# Altium footprint library adafruit.PCBLIB: 643 footprints (part 32 of 41)
Each footprint in its own frame and in the unit in brackets; x right, y up, seen from the top. Pads: shape width x height; smd on the part's side, far side on the other; paste and mask are expansions set on the pad; w line width, h text height; cw(c..) or ccw(c..) is an arc to the next point about the centre after c.
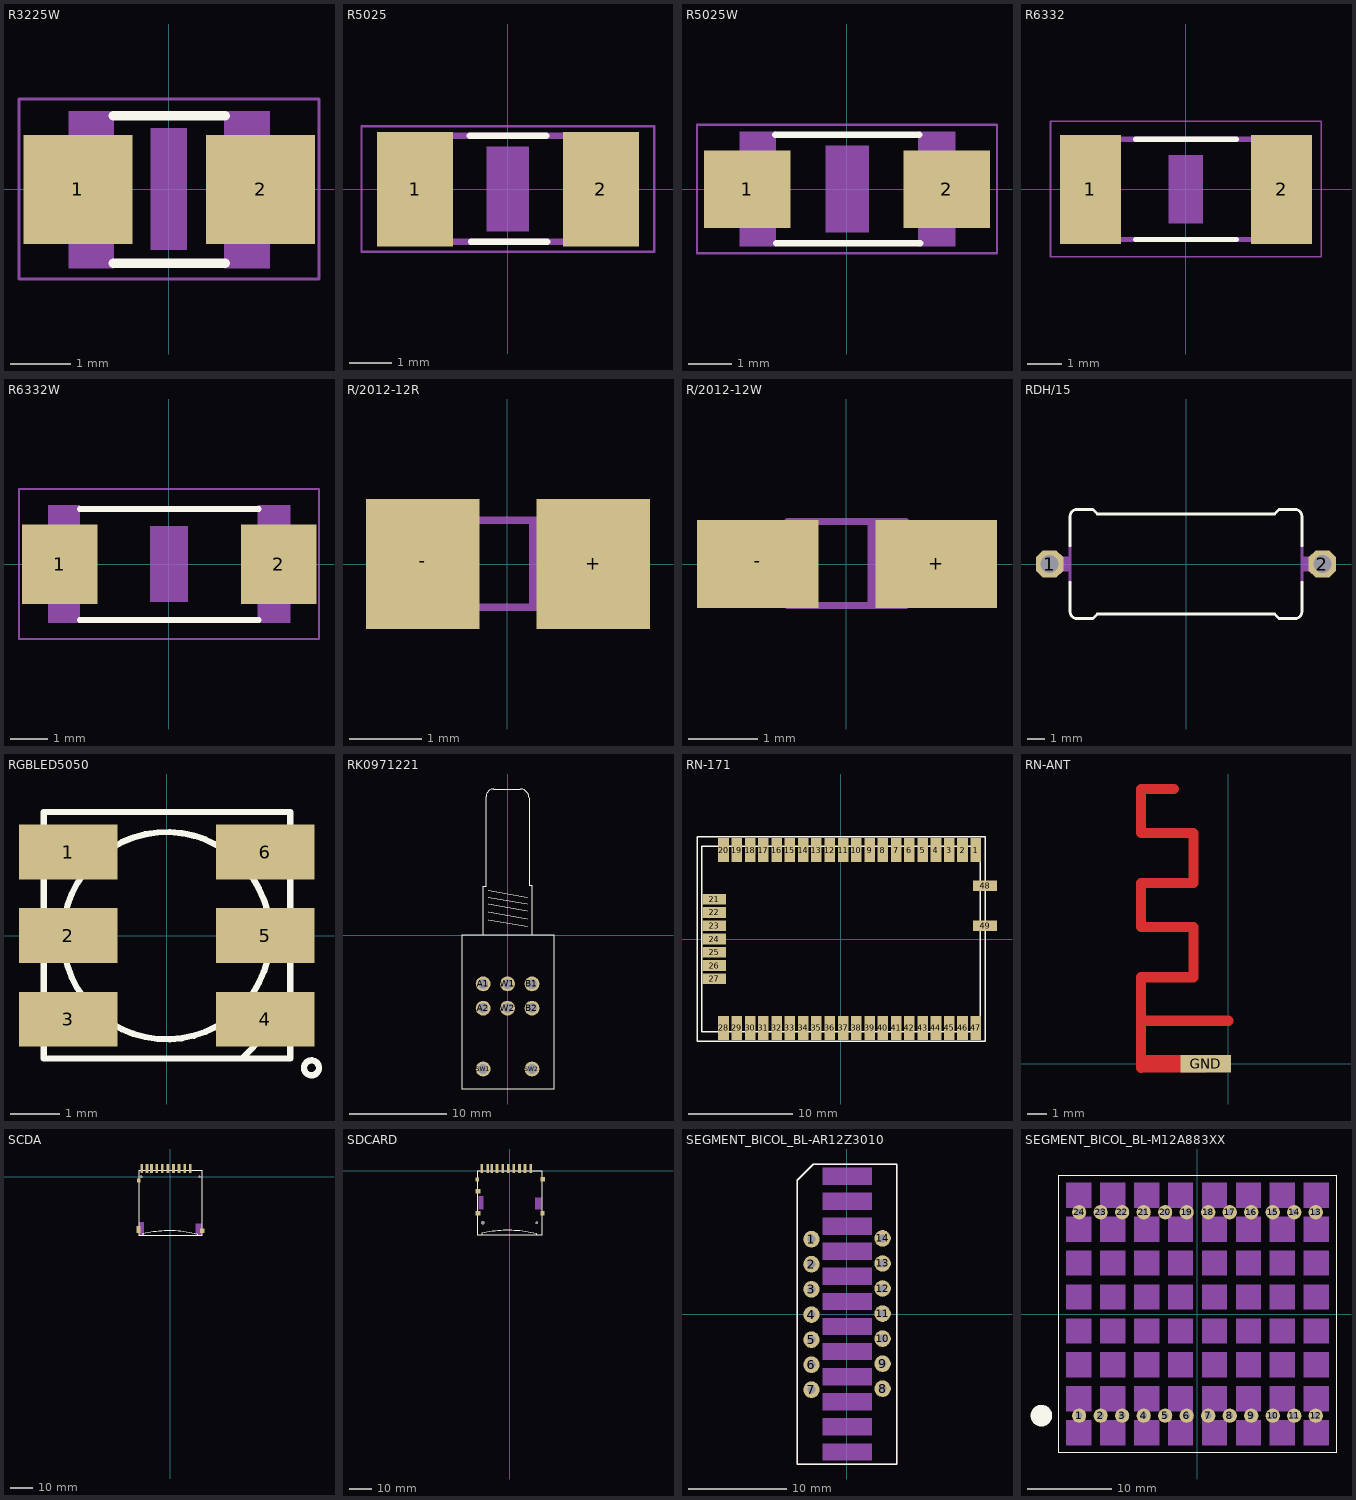
[diagram p31: the footprints below, top view; thin cyan lines are the x and y axes]

## R3225W [mil]
pads (2):
  rect 71x71 smd: 1(-59.02,0) 2(60,0)
Top Overlay:
  lines w6: -35.94,-47.99 37,-47.99 ; -35.94,48 37,48
Assembly Text Top:
  rectangle: -11.81,-39.37 12,40
Courtyard Bottom:
  rectangle: -65,-51.5 -35.47,51
  rectangle: 36,-51.5 66,51
Mech37:
  lines w2: -97.36,-58.39 98,-58.39 98,59 -97.36,59 -97.36,-58.39

## R5025 [mil]
pads (2):
  rect 71x107 smd: 1(-86.61,0) 2(87,0)
Top Overlay:
  lines w6: -35.43,50 36,50 ; -34.45,-49.02 37,-49.02
Assembly Text Top:
  rectangle: -19.69,-39.37 20,40
Courtyard Bottom:
  rectangle: -98,-52 -64.54,53
  rectangle: 65,-52 99,53
  lines w6: -65.43,50 66,50 ; -64.45,-49.02 67,-49.02
Mech37:
  lines w2: -136.73,-58.39 137,-58.39 137,59 -136.73,59 -136.73,-58.39

## R5025W [mil]
pads (2):
  rect 79x71 smd: 1(-90.98,0) 2(91,0)
Top Overlay:
  lines w6: -65.43,50 66,50 ; -64.45,-49.02 67,-49.02
Assembly Text Top:
  rectangle: -19.69,-39.37 20,40
Courtyard Bottom:
  rectangle: -98,-52 -64.54,53
  rectangle: 65,-52 99,53
Mech37:
  lines w2: -136.73,-58.39 137,-58.39 137,59 -136.73,59 -136.73,-58.39

## R6332 [mil]
pads (2):
  rect 71x126 smd: 1(-110.24,0) 2(111,0)
Top Overlay:
  lines w6: -57.99,-57.99 59,-57.99 ; -57.99,58 59,58
Assembly Text Top:
  rectangle: -19.69,-39.37 20,40
Courtyard Bottom:
  rectangle: -126,-61 -92.54,62
  rectangle: 93,-61 127,62
  lines w6: -92.99,-57.99 94,-57.99 ; -92.99,58 94,58
Mech37:
  lines w2: -156.42,-78.07 157,-78.07 157,79 -156.42,79 -156.42,-78.07

## R6332W [mil]
pads (2):
  rect 79x83 smd: 1(-114.02,0) 2(115,0)
Top Overlay:
  lines w6: -92.99,-57.99 94,-57.99 ; -92.99,58 94,58
Assembly Text Top:
  rectangle: -19.69,-39.37 20,40
Courtyard Bottom:
  rectangle: -126,-61 -92.54,62
  rectangle: 93,-61 127,62
Mech37:
  lines w2: -156.42,-78.07 157,-78.07 157,79 -156.42,79 -156.42,-78.07

## R/2012-12R [mil]
pads (2):
  rect 62x71 smd: +(47,0) -(-46.26,0)
Courtyard Bottom:
  rectangle: -39.37,-17.72 -34.45,18
  rectangle: 35,-17.72 40,18
  rectangle: 12,-24.61 20,25
  lines w4: -33.46,-23.62 34,-23.62 34,24 -33.46,24 -33.46,-23.62

## R/2012-12W [mil]
pads (2):
  rect 69x50 smd: +(51,0) -(-50.2,0)
Courtyard Bottom:
  rectangle: -39.37,-17.72 -34.45,18
  rectangle: 35,-17.72 40,18
  rectangle: 12,-24.61 20,25
  lines w4: -33.46,-23.62 34,-23.62 34,24 -33.46,24 -33.46,-23.62

## RDH/15 [mil]
pads (2):
  oct 60x60 hole 40: 1(-300,0) 2(300,0)
Top Overlay:
  lines w6: -255,-40 -255,-105 ccw(c-240,-105) -240,-120 -205,-120 -195,-110 195,-110 205,-120 240,-120 ccw(c240,-105) 255,-105 255,-40 ; -255,40 -255,105 cw(c-240,105) -240,120 -205,120 -195,110 195,110 205,120 240,120 cw(c240,105) 255,105 255,40
Courtyard Bottom:
  rectangle: -266,-16 -254,16
  rectangle: 254,-16 266,16
  lines w6: -255,-40 -255,40 ; 255,-40 255,40
  lines w32: -300,0 -270,0 ; 270,0 300,0
  text "RDH" at 180,-68 h77.5

## RGBLED5050 [mil]
pads (6):
  rect 79x44 smd: 1(-78.74,67) 2(-78.74,0) 3(-78.74,-66.93) 4(79,-66.93) 5(79,0) 6(79,67)
Top Overlay:
  circle w5: c116,-105.83 r6
  circle w5: c0,0 r83
  lines w5: 60,-98.43 99,-98.43 99,-59.06 ; 60,-98.43 -98.43,-98.43 -98.43,99 99,99 99,-59.06 ; 60,-98.43 99,-59.06

## RK0971221 [mil]
pads (8):
  round 60 hole 40: A1(-98.43,-196.85) A2(-98.43,-295.28) B1(99,-196.85) B2(99,-295.28) SW1(-98.43,-541.34) SW2(99,-541.34) W1(0,-196.85) W2(0,-295.28)
Top Overlay:
  lines w5: -78.74,63 79,36 ; -78.74,95 79,67 ; -78.74,126 79,99 ; -78.74,154 79,126 ; -78.74,182 79,154 ; -98.43,0 99,0 ; -98.43,0 -185.04,0 -185.04,-622.05 189,-622.05 189,0 99,0 ; -98.43,0 -98.43,197 -86.61,197 -86.61,560 cw(c-55.74,560.13) -55.87,591 51,591 cw(c51,555) 87,555 87,201 99,201 99,0

## RN-171 [mil]
pads (49):
  rect 40x90 smd: 1(508,335) 2(458,335) 3(408,335) 4(358,335) 5(308,335) 6(258,335) 7(208,335) 8(158,335) 9(108,335) 10(58,335) 11(8,335) 12(-42.5,335) 13(-92.5,335) 14(-142.5,335) 15(-192.5,335) 16(-242.5,335) 17(-292.5,335) 18(-342.5,335) 19(-392.5,335) 20(-442.5,335) 28(-442.5,-335) 29(-392.5,-335) 30(-342.5,-335) 31(-292.5,-335) 32(-242.5,-335) 33(-192.5,-335) 34(-142.5,-335) 35(-92.5,-335) 36(-42.5,-335) 37(8,-335) 38(58,-335) 39(108,-335) 40(158,-335) 41(208,-335) 42(258,-335) 43(308,-335) 44(358,-335) 45(408,-335) 46(458,-335) 47(508,-335)
  rect 90x40 smd: 21(-477.5,150) 22(-477.5,100) 23(-477.5,50) 24(-477.5,0) 25(-477.5,-50) 26(-477.5,-100) 27(-477.5,-150) 48(543,200) 49(543,50)
Top Overlay:
  lines w5: -542.5,-385 543,-385 543,385 -542.5,385 -542.5,-385 ; -525,-350 525,-350 525,350 -525,350 -525,-350

## RN-ANT [mil]
pads (2):
  rect 1x1 smd: FEED(0,85)
  rect 100x35 smd: GND(-45,0)
Top Layer:
  lines w20: -173,-8 -173,85 ; -108,543 -173,543 -173,456 -69,456 -69,357 -173,357 -173,270 -69,270 -69,171 -173,171 -173,85 ; 0,85 -173,85
  lines w35: -165,0 -50,0

## SCDA [mil]
pads (15):
  round 40 hole 40: 1(-511.81,0) 1(512,0)
  rect 48x158 smd: 1(252,146) 2(154,146) 3(56,146) 4(-43.31,146) 5(-141.73,146) 6(-240.16,146) 7(-330.71,146) 8(-409.45,146) 9(351,146) 10(-503.94,146)
  rect 67x71 smd: 11(-555.12,-66.93)
  rect 67x123 smd: 12(-559.06,-925.2)
  rect 75x75 smd: 13(560,-948.82)
Top Overlay:
  lines w5: -488.19,-1035.43 473,-1035.43 ; -488.19,-1035.43 -551.18,-1035.43 -551.18,111 556,111 556,-1035.43 473,-1035.43 ; -488.19,-1035.43 -488.19,-1003.94 cw(c-23.93,-3002.34) 473,-1011.81 473,-1035.43
Mech37:
  rectangle: -551.18,-1035.43 -460.63,-795.28
  rectangle: 445,-1035.43 556,-818.9
  region: 0,0 10,0 10,10 0,10

## SDCARD [mil]
pads (17):
  round 60 hole 60: 1(-472.44,-917.72)
  rect 48x158 smd: 1(268,36) 2(170,36) 3(71,36) 4(-27.56,36) 5(-122.05,36) 6(-224.41,36) 7(-318.9,36) 8(-385.83,36) 9(367,36) CD(-492.13,36)
  round 40 hole 40: 1(473,-917.72)
  rect 80x80 smd: COM(-559.06,-366.14) WP(-559.06,-748.03)
  rect 67x71 smd: MT1(-570.87,-153.94)
  rect 75x75 smd: MT2(579,-153.94) MT3(575,-748.43)
Top Overlay:
  lines w5: -496.06,-1134.25 465,-1134.25 ; -496.06,-1134.25 -559.06,-1134.25 -559.06,-0.39 563,-0.39 563,-1134.25 465,-1134.25 ; -496.06,-1134.25 -496.06,-1102.76 cw(c-31.87,-3100.9) 465,-1110.63 465,-1134.25
Mech37:
  rectangle: -551.18,-685.43 -460.63,-445.28
  rectangle: 445,-685.43 556,-468.9
  region: 0,0 10,0 10,10 0,10

## SEGMENT_BICOL_BL-AR12Z3010 [mil]
pads (14):
  round 66 hole 32: 1(-141.73,299) 2(-141.73,199) 3(-141.73,99) 4(-141.73,-1.97) 5(-141.73,-101.97) 6(-141.73,-201.97) 7(-141.73,-301.97) 8(142,-298.03) 9(142,-198.03) 10(142,-98.03) 11(142,2) 12(142,102) 13(142,202) 14(142,302)
Top Overlay:
  lines w5: -198.82,-598.43 199,-598.43 199,599 -134.06,599 -198.82,535 -198.82,-598.43
Courtyard Bottom:
  rectangle: -98.43,16 99,85
  rectangle: -98.43,116 99,185
  rectangle: -98.43,216 99,285
  rectangle: -98.43,316 99,385
  rectangle: -98.43,416 99,485
  rectangle: -98.43,516 99,585
  rectangle: -98.43,-84.25 99,-15.75
  rectangle: -98.43,-184.25 99,-115.75
  rectangle: -98.43,-284.25 99,-215.75
  rectangle: -98.43,-384.25 99,-315.75
  rectangle: -98.43,-484.25 99,-415.75
  rectangle: -98.43,-584.25 99,-515.75
  lines w5: -198.82,-598.43 199,-598.43 199,599 -134.06,599 -198.82,535 -198.82,-598.43
  text "A" at 225,525 h77.5
  text "B" at 225,425 h77.5
  text "C" at 225,325 h77.5
  text "D" at 225,225 h77.5
  text "E" at 225,125 h77.5
  text "F" at 225,25 h77.5
  text "G" at 225,-75 h77.5
  text "H" at 225,-175 h77.5
  text "I" at 225,-275 h77.5
  text "J" at 225,-375 h77.5
  text "K" at 225,-475 h77.5
  text "L" at 225,-575 h77.5

## SEGMENT_BICOL_BL-M12A883XX [mil]
pads (24):
  round 66 hole 32: 1(-550,-472.44) 2(-450,-472.44) 3(-350,-472.44) 4(-250,-472.44) 5(-150,-472.44) 6(-50,-472.44) 7(50,-472.44) 8(150,-472.44) 9(250,-472.44) 10(350,-472.44) 11(450,-472.44) 12(550,-472.44) 13(550,473) 14(450,473) 15(350,473) 16(250,473) 17(150,473) 18(50,473) 19(-50,473) 20(-150,473) 21(-250,473) 22(-350,473) 23(-450,473) 24(-550,473)
Top Overlay:
  circle w50: c-725.59,-472.44 r25
  lines w5: -643.7,-643.7 644,-643.7 644,644 -643.7,644 -643.7,-643.7
Courtyard Bottom:
  rectangle: -610.24,493 -492.13,611
  rectangle: -452.76,493 -334.65,611
  rectangle: -295.28,493 -177.17,611
  rectangle: -137.8,493 -19.68,611
  rectangle: 20,493 138,611
  rectangle: 178,493 296,611
  rectangle: 335,493 453,611
  rectangle: 493,493 611,611
  rectangle: 493,335 611,453
  rectangle: 335,335 453,453
  rectangle: 178,335 296,453
  rectangle: 20,335 138,453
  rectangle: -137.8,335 -19.68,453
  rectangle: -295.28,335 -177.17,453
  rectangle: -610.24,335 -492.13,453
  rectangle: -452.76,335 -334.65,453
  rectangle: -610.24,178 -492.13,296
  rectangle: -452.76,178 -334.65,296
  rectangle: -295.28,178 -177.17,296
  rectangle: -137.8,178 -19.68,296
  rectangle: 20,178 138,296
  rectangle: 178,178 296,296
  rectangle: 335,178 453,296
  rectangle: 493,178 611,296
  rectangle: 493,20 611,138
  rectangle: 493,-137.8 611,-19.68
  rectangle: 335,-137.8 453,-19.68
  rectangle: 335,20 453,138
  rectangle: 178,20 296,138
  rectangle: 20,20 138,138
  rectangle: -137.8,20 -19.68,138
  rectangle: -295.28,20 -177.17,138
  rectangle: -452.76,20 -334.65,138
  rectangle: -610.24,20 -492.13,138
  rectangle: -610.24,-137.8 -492.13,-19.68
  rectangle: -452.76,-137.8 -334.65,-19.68
  rectangle: -295.28,-137.8 -177.17,-19.68
  rectangle: -137.8,-137.8 -19.68,-19.68
  rectangle: 20,-137.8 138,-19.68
  rectangle: 178,-137.8 296,-19.68
  rectangle: 493,-295.28 611,-177.17
  rectangle: 335,-295.28 453,-177.17
  rectangle: -610.24,-295.28 -492.13,-177.17
  rectangle: -452.76,-295.28 -334.65,-177.17
  rectangle: -295.28,-295.28 -177.17,-177.17
  rectangle: -137.8,-295.28 -19.68,-177.17
  rectangle: 20,-295.28 138,-177.17
  rectangle: 178,-295.28 296,-177.17
  rectangle: 493,-452.76 611,-334.65
  rectangle: 335,-452.76 453,-334.65
  rectangle: -610.24,-452.76 -492.13,-334.65
  rectangle: -452.76,-452.76 -334.65,-334.65
  rectangle: -295.28,-452.76 -177.17,-334.65
  rectangle: -137.8,-452.76 -19.68,-334.65
  rectangle: 20,-452.76 138,-334.65
  rectangle: 178,-452.76 296,-334.65
  rectangle: 493,-610.24 611,-492.13
  rectangle: 335,-610.24 453,-492.13
  rectangle: -610.24,-610.24 -492.13,-492.13
  rectangle: -452.76,-610.24 -334.65,-492.13
  rectangle: -295.28,-610.24 -177.17,-492.13
  rectangle: -137.8,-610.24 -19.68,-492.13
  rectangle: 20,-610.24 138,-492.13
  rectangle: 178,-610.24 296,-492.13
  lines w5: -643.7,-643.7 644,-643.7 644,644 -643.7,644 -643.7,-643.7